# EAGLE library part 310050091_PCA9306DQER (library Seeed-OPL-2017-01-IC-Akita)
TI;PCA9306DQER, SMD IC Logic;X2SON-8, SKU: 310050091
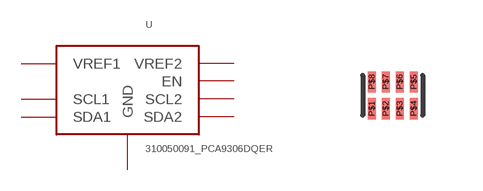
[diagram p6: symbol with the pads of X2SON8; footprint X2SON8]

Designator prefix U

## 310050091_PCA9306DQER  [X2SON8]
P$1  GND
P$2  VREF1
P$3  SCL1
P$4  SDA1
P$5  SDA2
P$6  SCL2
P$7  VREF2
P$8  EN

## Footprint X2SON8 (pad centres in mm)
X2SON8
smd 0.2 x 0.53: P$1 -0.525,-0.335; P$2 -0.175,-0.335; P$3 0.175,-0.335; P$4 0.525,-0.335; P$5 0.525,0.335; P$6 0.175,0.335; P$7 -0.175,0.335; P$8 -0.525,0.335